# Altium schematic symbol library THJP1225AST1.SchLib: 1 symbol
Pins are listed as number, name and electrical type; pins without a type are passive.

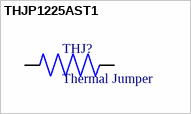
[diagram p0: symbol THJP1225AST1]

## THJP1225AST1
designator THJ?, comment Thermal Jumper
SMD Thermal Jumper, Vishay, Thermal Interface Products Therm Jumper 30 mil 1225; MP: RCL1225120RFKEG; Package: None; Price: None; Value: *; Availability: Unavailable
footprint RESC3263X80N
pins: 1, 2